# Altium footprint library PCB - CONNECTOR - CUI - CUI PJ-002BH-SMT-TR.PCBLIB: 1 footprints
Each footprint in its own frame and in the unit in brackets; x right, y up, seen from the top. Pads: shape width x height; smd on the part's side, far side on the other; paste and mask are expansions set on the pad; w line width, h text height; cw(c..) or ccw(c..) is an arc to the next point about the centre after c.
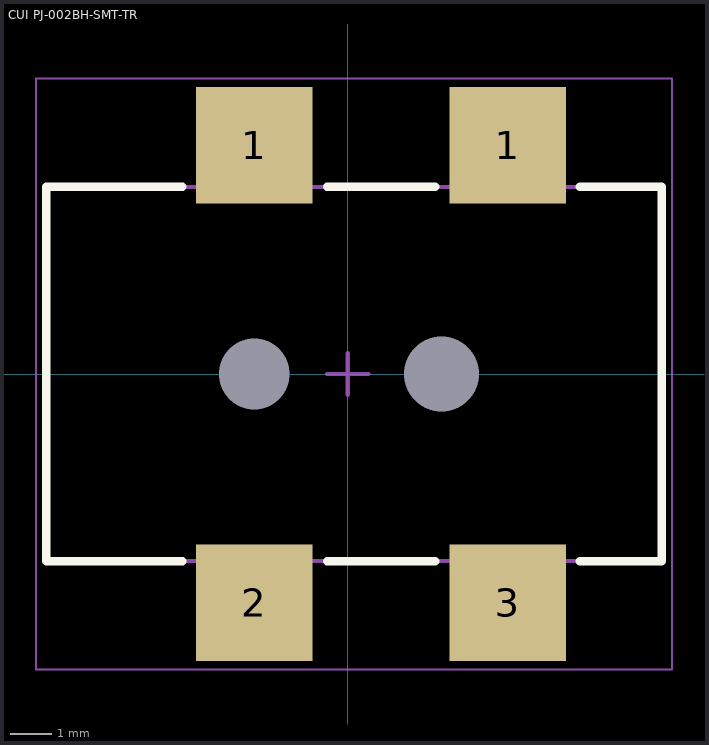
[diagram p0: the footprint, top view; thin cyan lines are the x and y axes]

## CUI PJ-002BH-SMT-TR [mm]
height 11
pads (6):
  rect 2.8x2.8 smd: 1(-2.25,5.5) 1(3.85,5.5) 2(-2.25,-5.5) 3(3.85,-5.5)
  round 0 hole 1.7 unplated: M(-2.25,0)
  round 0 hole 1.8 unplated: M(2.25,0)
Top Overlay:
  lines w0.2: -3.975,-4.5 -7.25,-4.5 -7.25,4.5 -3.975,4.5 ; -0.5,-4.5 2.1,-4.5 ; -0.5,4.5 2.1,4.5 ; 5.575,-4.5 7.55,-4.5 7.55,4.5 5.575,4.5
Mechanical 13:
  lines w0.1: -7.25,-4.5 -7.25,4.5 7.55,4.5 7.55,-4.5 -7.25,-4.5
Mechanical 15:
  lines w0.05: -7.5,-7.1 7.8,-7.1 7.8,7.1 -7.5,7.1 -7.5,-7.1
  lines w0.1: -0.5,0 0.5,0 ; 0,-0.5 0,0.5
3D body: height 11.4, standoff -1, extent -7.25,-6.3 7.55,6.3